# Altium footprint library Molex Microfit 2.0 1x2.PcbLib: 1 footprints
Each footprint in its own frame and in the unit in brackets; x right, y up, seen from the top. Pads: shape width x height; smd on the part's side, far side on the other; paste and mask are expansions set on the pad; w line width, h text height; cw(c..) or ccw(c..) is an arc to the next point about the centre after c.
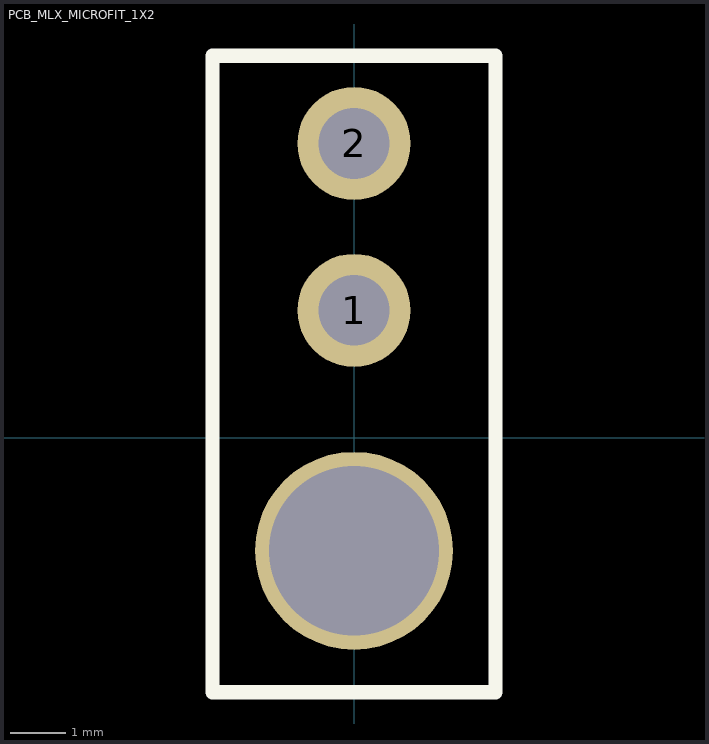
[diagram p0: the footprint, top view; thin cyan lines are the x and y axes]

## PCB_MLX_MICROFIT_1X2 [mil]
pads (3):
  round 80 hole 50: 1(0,90) 2(0,208)
  round 140 hole 120: ""(0,-80)
Top Overlay:
  lines w10: -100,-180 -100,270 100,270 100,-180 -100,-180
3D body "430450200.stp": height 345.35, standoff -125.12, extent -141.5,-185.95 140,295.95